# Altium schematic symbol library kmilo17pet-LT_OpAmp_LT2000.SchLib: 1710 symbols (part 26 of 75)
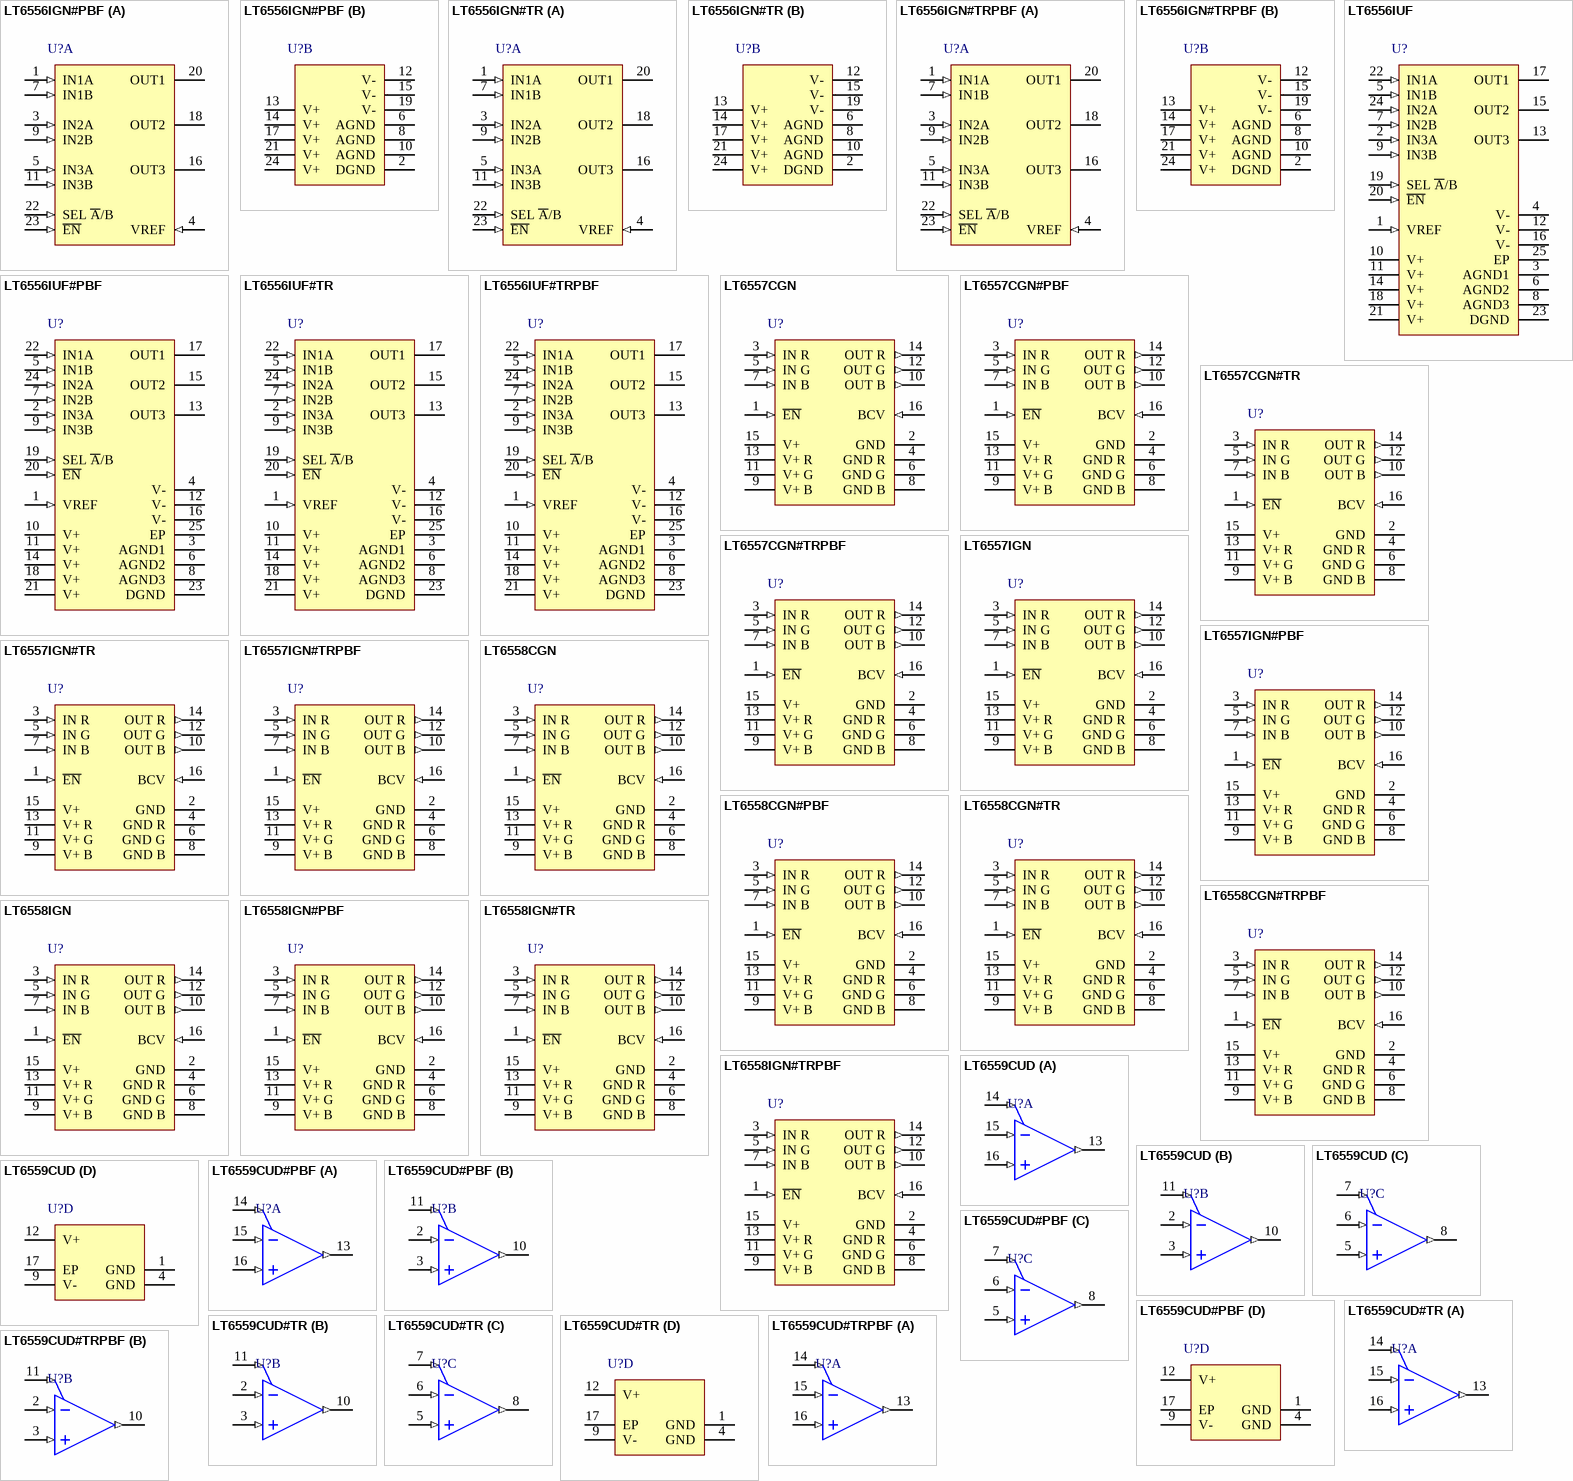
[diagram p105: symbols LT6556IGN#PBF to LT6559CUD#TRPBF]

## LT6557CGN#TR
designator U?
3 Channel, Single Supply Video Amplifier with Input Bias Control, 500 MHz Typical GBW, 2200 V/us Typical SR, 3 to 7.5 V, 16-Pin SOP (GN-16), Commercial, Reel; Linear Technology Part Number: LT6557; Manufacturer: Linear Technology; PartNumber: LT6557CGN#TR; Channels (#): 3; GBW (MHz) Typical: 500; Is (mA) Typical: 22.5; SR (V/us) Typical: 2200; Vos (mV) Typical: 12; Vs Max (V): 7.5; DatasheetVersion: Rev. A; PackageVersion: Rev B; PackageReference: LT-GN-16; PackageDescription: 16-Lead Plastic SSOP, Body 4.9 x 3.9 mm, Pitch 0.635 mm; Packing: Reel; Type: VIDEO; Vs Min (V): 3; Mounting Technology: Surface Mount; ComponentLink1Description: Manufacturer URL; ComponentLink1URL: http://www.linear.com/; ComponentLink2Description: Datasheet; ComponentLink2URL: http://cds.linear.com/docs/en/datasheet/6557fa.pdf; ComponentLink3Description: Package Specification; ComponentLink3URL: http://cds.linear.com/docs/en/packaging/05081641_B_GN16.pdf
footprint LT-GN-16_N (SOP, 16-Leads, Body 4.9x3.9mm, Pitch 0.635mm, IPC Medium Density)
footprint LT-GN-16_L (SOP, 16-Leads, Body 4.9x3.9mm, Pitch 0.635mm, IPC High Density)
footprint LT-GN-16_M (SOP, 16-Leads, Body 4.9x3.9mm, Pitch 0.635mm, IPC Low Density)
pins: 1 ~{EN} (in) "Enable Control Pin. The part is enabled when this pin is pulled low. An internal pull-up resistor of 40k will turn the part off if this pin is unconnected", 2 GND (power) "Ground Reference for Enable Pin (Pin 1) and Bias Control Voltage Pin (Pin 16). This pin must be connected externally to ground", 3 IN R (in) "Red Channel Input. This pin has a nominal impedance of 450k ohm with input bias circuit inactive, Pin 16 open.", 4 GND R (power) "Ground of Red Channel Amplifi er. This pin is not internally connected to other ground pins and must be connected externally to ground.", 5 IN G (in) "Green Channel Input. This pin has a nominal impedance of 450k ohm with input bias circuit inactive, Pin 16 open.", 6 GND G (power) "Ground of Green Channel Amplifi er. This pin is not internally connected to other ground pins and must be connected externally to ground.", 7 IN B (in) "Blue Channel Input. This pin has a nominal impedance of 450k ohm with input bias circuit inactive, Pin 16 open.", 8 GND B (power) "Ground of Blue Channel Amplifi er. This pin is not internally connected to other ground pins and must be connected externally to ground.", 9 V+ B (power) "Positive Supply Voltage of Blue Channel Amplifi er. This pin is not internally connected to other supply voltage pins and must be externally connected to the supply voltage bus with proper bypassing. For best performance, (See Datasheet)", 10 OUT B (out) "Blue Channel Output.", 11 V+ G (power) "Positive Supply Voltage of Green Channel Amplifi er. This pin is not internally connected to other supply voltage pins and must be externally connected to the supply voltage bus with proper bypassing. For best performance, (See Datasheet)", 12 OUT G (out) "Green Channel Output.", 13 V+ R (power) "Positive Supply Voltage of Red Channel Amplifi er. This pin is not internally connected to other supply voltage pins and must be externally connected tothe supply voltage bus with proper bypassing. For best performance, see (See Datasheet)", 14 OUT R (out) "Red Channel Output.", 15 V+ (power) "Positive Supply Voltage of Control Circuitry. This pin is not internally connected to other supply voltage pins and must be externally connected to supply voltage bus with proper bypassing. For best performance, see Power (See Datasheet)", 16 BCV (in) "Bias Control Voltage. A resistor connected between Pin 16 and Pin 2 (GND) will generate a DC voltage bias at the inputs of the three amplifi ers for AC coupling application, see Programmable Input Bias."

## LT6557CGN#TRPBF
designator U?
3 Channel, Single Supply Video Amplifier with Input Bias Control, 500 MHz Typical GBW, 2200 V/us Typical SR, 3 to 7.5 V, 16-Pin SOP (GN-16), Commercial, Pb-Free, Reel; Linear Technology Part Number: LT6557; Manufacturer: Linear Technology; PartNumber: LT6557CGN#TRPBF; Channels (#): 3; GBW (MHz) Typical: 500; Is (mA) Typical: 22.5; SR (V/us) Typical: 2200; Vos (mV) Typical: 12; Vs Max (V): 7.5; DatasheetVersion: Rev. A; PackageVersion: Rev B; PackageReference: LT-GN-16; PackageDescription: 16-Lead Plastic SSOP, Body 4.9 x 3.9 mm, Pitch 0.635 mm; Supplier 1: Digi-Key; Supplier Part Number 1: LT6557CGN#TRPBF-ND; Packing: Reel; RoHS: Pb-Free; Type: VIDEO; Vs Min (V): 3; Mounting Technology: Surface Mount; ComponentLink1Description: Manufacturer URL; ComponentLink1URL: http://www.linear.com/; ComponentLink2Description: Datasheet; ComponentLink2URL: http://cds.linear.com/docs/en/datasheet/6557fa.pdf; ComponentLink3Description: Package Specification; ComponentLink3URL: http://cds.linear.com/docs/en/packaging/05081641_B_GN16.pdf
footprint LT-GN-16_N (SOP, 16-Leads, Body 4.9x3.9mm, Pitch 0.635mm, IPC Medium Density)
footprint LT-GN-16_L (SOP, 16-Leads, Body 4.9x3.9mm, Pitch 0.635mm, IPC High Density)
footprint LT-GN-16_M (SOP, 16-Leads, Body 4.9x3.9mm, Pitch 0.635mm, IPC Low Density)
pins: 1 ~{EN} (in) "Enable Control Pin. The part is enabled when this pin is pulled low. An internal pull-up resistor of 40k will turn the part off if this pin is unconnected", 2 GND (power) "Ground Reference for Enable Pin (Pin 1) and Bias Control Voltage Pin (Pin 16). This pin must be connected externally to ground", 3 IN R (in) "Red Channel Input. This pin has a nominal impedance of 450k ohm with input bias circuit inactive, Pin 16 open.", 4 GND R (power) "Ground of Red Channel Amplifi er. This pin is not internally connected to other ground pins and must be connected externally to ground.", 5 IN G (in) "Green Channel Input. This pin has a nominal impedance of 450k ohm with input bias circuit inactive, Pin 16 open.", 6 GND G (power) "Ground of Green Channel Amplifi er. This pin is not internally connected to other ground pins and must be connected externally to ground.", 7 IN B (in) "Blue Channel Input. This pin has a nominal impedance of 450k ohm with input bias circuit inactive, Pin 16 open.", 8 GND B (power) "Ground of Blue Channel Amplifi er. This pin is not internally connected to other ground pins and must be connected externally to ground.", 9 V+ B (power) "Positive Supply Voltage of Blue Channel Amplifi er. This pin is not internally connected to other supply voltage pins and must be externally connected to the supply voltage bus with proper bypassing. For best performance, (See Datasheet)", 10 OUT B (out) "Blue Channel Output.", 11 V+ G (power) "Positive Supply Voltage of Green Channel Amplifi er. This pin is not internally connected to other supply voltage pins and must be externally connected to the supply voltage bus with proper bypassing. For best performance, (See Datasheet)", 12 OUT G (out) "Green Channel Output.", 13 V+ R (power) "Positive Supply Voltage of Red Channel Amplifi er. This pin is not internally connected to other supply voltage pins and must be externally connected tothe supply voltage bus with proper bypassing. For best performance, see (See Datasheet)", 14 OUT R (out) "Red Channel Output.", 15 V+ (power) "Positive Supply Voltage of Control Circuitry. This pin is not internally connected to other supply voltage pins and must be externally connected to supply voltage bus with proper bypassing. For best performance, see Power (See Datasheet)", 16 BCV (in) "Bias Control Voltage. A resistor connected between Pin 16 and Pin 2 (GND) will generate a DC voltage bias at the inputs of the three amplifi ers for AC coupling application, see Programmable Input Bias."

## LT6557IGN
designator U?
3 Channel, Single Supply Video Amplifier with Input Bias Control, 500 MHz Typical GBW, 2200 V/us Typical SR, 3 to 7.5 V, 16-Pin SOP (GN-16), Industrial; Linear Technology Part Number: LT6557; Manufacturer: Linear Technology; PartNumber: LT6557IGN; Channels (#): 3; GBW (MHz) Typical: 500; Is (mA) Typical: 22.5; SR (V/us) Typical: 2200; Vos (mV) Typical: 12; Vs Max (V): 7.5; DatasheetVersion: Rev. A; PackageVersion: Rev B; PackageReference: LT-GN-16; PackageDescription: 16-Lead Plastic SSOP, Body 4.9 x 3.9 mm, Pitch 0.635 mm; Type: VIDEO; Vs Min (V): 3; Mounting Technology: Surface Mount; ComponentLink1Description: Manufacturer URL; ComponentLink1URL: http://www.linear.com/; ComponentLink2Description: Datasheet; ComponentLink2URL: http://cds.linear.com/docs/en/datasheet/6557fa.pdf; ComponentLink3Description: Package Specification; ComponentLink3URL: http://cds.linear.com/docs/en/packaging/05081641_B_GN16.pdf
footprint LT-GN-16_N (SOP, 16-Leads, Body 4.9x3.9mm, Pitch 0.635mm, IPC Medium Density)
footprint LT-GN-16_L (SOP, 16-Leads, Body 4.9x3.9mm, Pitch 0.635mm, IPC High Density)
footprint LT-GN-16_M (SOP, 16-Leads, Body 4.9x3.9mm, Pitch 0.635mm, IPC Low Density)
pins: 1 ~{EN} (in) "Enable Control Pin. The part is enabled when this pin is pulled low. An internal pull-up resistor of 40k will turn the part off if this pin is unconnected", 2 GND (power) "Ground Reference for Enable Pin (Pin 1) and Bias Control Voltage Pin (Pin 16). This pin must be connected externally to ground", 3 IN R (in) "Red Channel Input. This pin has a nominal impedance of 450k ohm with input bias circuit inactive, Pin 16 open.", 4 GND R (power) "Ground of Red Channel Amplifi er. This pin is not internally connected to other ground pins and must be connected externally to ground.", 5 IN G (in) "Green Channel Input. This pin has a nominal impedance of 450k ohm with input bias circuit inactive, Pin 16 open.", 6 GND G (power) "Ground of Green Channel Amplifi er. This pin is not internally connected to other ground pins and must be connected externally to ground.", 7 IN B (in) "Blue Channel Input. This pin has a nominal impedance of 450k ohm with input bias circuit inactive, Pin 16 open.", 8 GND B (power) "Ground of Blue Channel Amplifi er. This pin is not internally connected to other ground pins and must be connected externally to ground.", 9 V+ B (power) "Positive Supply Voltage of Blue Channel Amplifi er. This pin is not internally connected to other supply voltage pins and must be externally connected to the supply voltage bus with proper bypassing. For best performance, (See Datasheet)", 10 OUT B (out) "Blue Channel Output.", 11 V+ G (power) "Positive Supply Voltage of Green Channel Amplifi er. This pin is not internally connected to other supply voltage pins and must be externally connected to the supply voltage bus with proper bypassing. For best performance, (See Datasheet)", 12 OUT G (out) "Green Channel Output.", 13 V+ R (power) "Positive Supply Voltage of Red Channel Amplifi er. This pin is not internally connected to other supply voltage pins and must be externally connected tothe supply voltage bus with proper bypassing. For best performance, see (See Datasheet)", 14 OUT R (out) "Red Channel Output.", 15 V+ (power) "Positive Supply Voltage of Control Circuitry. This pin is not internally connected to other supply voltage pins and must be externally connected to supply voltage bus with proper bypassing. For best performance, see Power (See Datasheet)", 16 BCV (in) "Bias Control Voltage. A resistor connected between Pin 16 and Pin 2 (GND) will generate a DC voltage bias at the inputs of the three amplifi ers for AC coupling application, see Programmable Input Bias."

## LT6557IGN#PBF
designator U?
3 Channel, Single Supply Video Amplifier with Input Bias Control, 500 MHz Typical GBW, 2200 V/us Typical SR, 3 to 7.5 V, 16-Pin SOP (GN-16), Industrial, Pb-Free; Linear Technology Part Number: LT6557; Manufacturer: Linear Technology; PartNumber: LT6557IGN#PBF; Channels (#): 3; GBW (MHz) Typical: 500; Is (mA) Typical: 22.5; SR (V/us) Typical: 2200; Vos (mV) Typical: 12; Vs Max (V): 7.5; DatasheetVersion: Rev. A; PackageVersion: Rev B; PackageReference: LT-GN-16; PackageDescription: 16-Lead Plastic SSOP, Body 4.9 x 3.9 mm, Pitch 0.635 mm; Supplier 1: Digi-Key; Supplier Part Number 1: LT6557IGN#PBF-ND; RoHS: Pb-Free; Type: VIDEO; Vs Min (V): 3; Mounting Technology: Surface Mount; ComponentLink1Description: Manufacturer URL; ComponentLink1URL: http://www.linear.com/; ComponentLink2Description: Datasheet; ComponentLink2URL: http://cds.linear.com/docs/en/datasheet/6557fa.pdf; ComponentLink3Description: Package Specification; ComponentLink3URL: http://cds.linear.com/docs/en/packaging/05081641_B_GN16.pdf
footprint LT-GN-16_N (SOP, 16-Leads, Body 4.9x3.9mm, Pitch 0.635mm, IPC Medium Density)
footprint LT-GN-16_L (SOP, 16-Leads, Body 4.9x3.9mm, Pitch 0.635mm, IPC High Density)
footprint LT-GN-16_M (SOP, 16-Leads, Body 4.9x3.9mm, Pitch 0.635mm, IPC Low Density)
pins: 1 ~{EN} (in) "Enable Control Pin. The part is enabled when this pin is pulled low. An internal pull-up resistor of 40k will turn the part off if this pin is unconnected", 2 GND (power) "Ground Reference for Enable Pin (Pin 1) and Bias Control Voltage Pin (Pin 16). This pin must be connected externally to ground", 3 IN R (in) "Red Channel Input. This pin has a nominal impedance of 450k ohm with input bias circuit inactive, Pin 16 open.", 4 GND R (power) "Ground of Red Channel Amplifi er. This pin is not internally connected to other ground pins and must be connected externally to ground.", 5 IN G (in) "Green Channel Input. This pin has a nominal impedance of 450k ohm with input bias circuit inactive, Pin 16 open.", 6 GND G (power) "Ground of Green Channel Amplifi er. This pin is not internally connected to other ground pins and must be connected externally to ground.", 7 IN B (in) "Blue Channel Input. This pin has a nominal impedance of 450k ohm with input bias circuit inactive, Pin 16 open.", 8 GND B (power) "Ground of Blue Channel Amplifi er. This pin is not internally connected to other ground pins and must be connected externally to ground.", 9 V+ B (power) "Positive Supply Voltage of Blue Channel Amplifi er. This pin is not internally connected to other supply voltage pins and must be externally connected to the supply voltage bus with proper bypassing. For best performance, (See Datasheet)", 10 OUT B (out) "Blue Channel Output.", 11 V+ G (power) "Positive Supply Voltage of Green Channel Amplifi er. This pin is not internally connected to other supply voltage pins and must be externally connected to the supply voltage bus with proper bypassing. For best performance, (See Datasheet)", 12 OUT G (out) "Green Channel Output.", 13 V+ R (power) "Positive Supply Voltage of Red Channel Amplifi er. This pin is not internally connected to other supply voltage pins and must be externally connected tothe supply voltage bus with proper bypassing. For best performance, see (See Datasheet)", 14 OUT R (out) "Red Channel Output.", 15 V+ (power) "Positive Supply Voltage of Control Circuitry. This pin is not internally connected to other supply voltage pins and must be externally connected to supply voltage bus with proper bypassing. For best performance, see Power (See Datasheet)", 16 BCV (in) "Bias Control Voltage. A resistor connected between Pin 16 and Pin 2 (GND) will generate a DC voltage bias at the inputs of the three amplifi ers for AC coupling application, see Programmable Input Bias."

## LT6557IGN#TR
designator U?
3 Channel, Single Supply Video Amplifier with Input Bias Control, 500 MHz Typical GBW, 2200 V/us Typical SR, 3 to 7.5 V, 16-Pin SOP (GN-16), Industrial, Reel; Linear Technology Part Number: LT6557; Manufacturer: Linear Technology; PartNumber: LT6557IGN#TR; Channels (#): 3; GBW (MHz) Typical: 500; Is (mA) Typical: 22.5; SR (V/us) Typical: 2200; Vos (mV) Typical: 12; Vs Max (V): 7.5; DatasheetVersion: Rev. A; PackageVersion: Rev B; PackageReference: LT-GN-16; PackageDescription: 16-Lead Plastic SSOP, Body 4.9 x 3.9 mm, Pitch 0.635 mm; Packing: Reel; Type: VIDEO; Vs Min (V): 3; Mounting Technology: Surface Mount; ComponentLink1Description: Manufacturer URL; ComponentLink1URL: http://www.linear.com/; ComponentLink2Description: Datasheet; ComponentLink2URL: http://cds.linear.com/docs/en/datasheet/6557fa.pdf; ComponentLink3Description: Package Specification; ComponentLink3URL: http://cds.linear.com/docs/en/packaging/05081641_B_GN16.pdf
footprint LT-GN-16_N (SOP, 16-Leads, Body 4.9x3.9mm, Pitch 0.635mm, IPC Medium Density)
footprint LT-GN-16_L (SOP, 16-Leads, Body 4.9x3.9mm, Pitch 0.635mm, IPC High Density)
footprint LT-GN-16_M (SOP, 16-Leads, Body 4.9x3.9mm, Pitch 0.635mm, IPC Low Density)
pins: 1 ~{EN} (in) "Enable Control Pin. The part is enabled when this pin is pulled low. An internal pull-up resistor of 40k will turn the part off if this pin is unconnected", 2 GND (power) "Ground Reference for Enable Pin (Pin 1) and Bias Control Voltage Pin (Pin 16). This pin must be connected externally to ground", 3 IN R (in) "Red Channel Input. This pin has a nominal impedance of 450k ohm with input bias circuit inactive, Pin 16 open.", 4 GND R (power) "Ground of Red Channel Amplifi er. This pin is not internally connected to other ground pins and must be connected externally to ground.", 5 IN G (in) "Green Channel Input. This pin has a nominal impedance of 450k ohm with input bias circuit inactive, Pin 16 open.", 6 GND G (power) "Ground of Green Channel Amplifi er. This pin is not internally connected to other ground pins and must be connected externally to ground.", 7 IN B (in) "Blue Channel Input. This pin has a nominal impedance of 450k ohm with input bias circuit inactive, Pin 16 open.", 8 GND B (power) "Ground of Blue Channel Amplifi er. This pin is not internally connected to other ground pins and must be connected externally to ground.", 9 V+ B (power) "Positive Supply Voltage of Blue Channel Amplifi er. This pin is not internally connected to other supply voltage pins and must be externally connected to the supply voltage bus with proper bypassing. For best performance, (See Datasheet)", 10 OUT B (out) "Blue Channel Output.", 11 V+ G (power) "Positive Supply Voltage of Green Channel Amplifi er. This pin is not internally connected to other supply voltage pins and must be externally connected to the supply voltage bus with proper bypassing. For best performance, (See Datasheet)", 12 OUT G (out) "Green Channel Output.", 13 V+ R (power) "Positive Supply Voltage of Red Channel Amplifi er. This pin is not internally connected to other supply voltage pins and must be externally connected tothe supply voltage bus with proper bypassing. For best performance, see (See Datasheet)", 14 OUT R (out) "Red Channel Output.", 15 V+ (power) "Positive Supply Voltage of Control Circuitry. This pin is not internally connected to other supply voltage pins and must be externally connected to supply voltage bus with proper bypassing. For best performance, see Power (See Datasheet)", 16 BCV (in) "Bias Control Voltage. A resistor connected between Pin 16 and Pin 2 (GND) will generate a DC voltage bias at the inputs of the three amplifi ers for AC coupling application, see Programmable Input Bias."

## LT6557IGN#TRPBF
designator U?
3 Channel, Single Supply Video Amplifier with Input Bias Control, 500 MHz Typical GBW, 2200 V/us Typical SR, 3 to 7.5 V, 16-Pin SOP (GN-16), Industrial, Pb-Free, Reel; Linear Technology Part Number: LT6557; Manufacturer: Linear Technology; PartNumber: LT6557IGN#TRPBF; Channels (#): 3; GBW (MHz) Typical: 500; Is (mA) Typical: 22.5; SR (V/us) Typical: 2200; Vos (mV) Typical: 12; Vs Max (V): 7.5; DatasheetVersion: Rev. A; PackageVersion: Rev B; PackageReference: LT-GN-16; PackageDescription: 16-Lead Plastic SSOP, Body 4.9 x 3.9 mm, Pitch 0.635 mm; Supplier 1: Digi-Key; Supplier Part Number 1: LT6557IGN#TRPBF-ND; Packing: Reel; RoHS: Pb-Free; Type: VIDEO; Vs Min (V): 3; Mounting Technology: Surface Mount; ComponentLink1Description: Manufacturer URL; ComponentLink1URL: http://www.linear.com/; ComponentLink2Description: Datasheet; ComponentLink2URL: http://cds.linear.com/docs/en/datasheet/6557fa.pdf; ComponentLink3Description: Package Specification; ComponentLink3URL: http://cds.linear.com/docs/en/packaging/05081641_B_GN16.pdf
footprint LT-GN-16_N (SOP, 16-Leads, Body 4.9x3.9mm, Pitch 0.635mm, IPC Medium Density)
footprint LT-GN-16_L (SOP, 16-Leads, Body 4.9x3.9mm, Pitch 0.635mm, IPC High Density)
footprint LT-GN-16_M (SOP, 16-Leads, Body 4.9x3.9mm, Pitch 0.635mm, IPC Low Density)
pins: 1 ~{EN} (in) "Enable Control Pin. The part is enabled when this pin is pulled low. An internal pull-up resistor of 40k will turn the part off if this pin is unconnected", 2 GND (power) "Ground Reference for Enable Pin (Pin 1) and Bias Control Voltage Pin (Pin 16). This pin must be connected externally to ground", 3 IN R (in) "Red Channel Input. This pin has a nominal impedance of 450k ohm with input bias circuit inactive, Pin 16 open.", 4 GND R (power) "Ground of Red Channel Amplifi er. This pin is not internally connected to other ground pins and must be connected externally to ground.", 5 IN G (in) "Green Channel Input. This pin has a nominal impedance of 450k ohm with input bias circuit inactive, Pin 16 open.", 6 GND G (power) "Ground of Green Channel Amplifi er. This pin is not internally connected to other ground pins and must be connected externally to ground.", 7 IN B (in) "Blue Channel Input. This pin has a nominal impedance of 450k ohm with input bias circuit inactive, Pin 16 open.", 8 GND B (power) "Ground of Blue Channel Amplifi er. This pin is not internally connected to other ground pins and must be connected externally to ground.", 9 V+ B (power) "Positive Supply Voltage of Blue Channel Amplifi er. This pin is not internally connected to other supply voltage pins and must be externally connected to the supply voltage bus with proper bypassing. For best performance, (See Datasheet)", 10 OUT B (out) "Blue Channel Output.", 11 V+ G (power) "Positive Supply Voltage of Green Channel Amplifi er. This pin is not internally connected to other supply voltage pins and must be externally connected to the supply voltage bus with proper bypassing. For best performance, (See Datasheet)", 12 OUT G (out) "Green Channel Output.", 13 V+ R (power) "Positive Supply Voltage of Red Channel Amplifi er. This pin is not internally connected to other supply voltage pins and must be externally connected tothe supply voltage bus with proper bypassing. For best performance, see (See Datasheet)", 14 OUT R (out) "Red Channel Output.", 15 V+ (power) "Positive Supply Voltage of Control Circuitry. This pin is not internally connected to other supply voltage pins and must be externally connected to supply voltage bus with proper bypassing. For best performance, see Power (See Datasheet)", 16 BCV (in) "Bias Control Voltage. A resistor connected between Pin 16 and Pin 2 (GND) will generate a DC voltage bias at the inputs of the three amplifi ers for AC coupling application, see Programmable Input Bias."

## LT6558CGN
designator U?
3 Channel, Single Supply Video Amplifier with Input Bias Control, 550 MHz Typical GBW, 2200 V/us Typical SR, 3 to 7.5 V, 16-Pin SOP (GN-16), Commercial; Linear Technology Part Number: LT6558; Manufacturer: Linear Technology; PartNumber: LT6558CGN; Channels (#): 3; GBW (MHz) Typical: 550; Is (mA) Typical: 22.5; SR (V/us) Typical: 2200; Vos (mV) Typical: 12; Vs Max (V): 7.5; PackageVersion: Rev B; PackageReference: LT-GN-16; PackageDescription: 16-Lead Plastic SSOP, Body 4.9 x 3.9 mm, Pitch 0.635 mm; Type: CFA; Vs Min (V): 3; Mounting Technology: Surface Mount; ComponentLink1Description: Manufacturer URL; ComponentLink1URL: http://www.linear.com/; ComponentLink2Description: Datasheet; ComponentLink2URL: http://cds.linear.com/docs/en/datasheet/6558f.pdf; ComponentLink3Description: Package Specification; ComponentLink3URL: http://cds.linear.com/docs/en/packaging/05081641_B_GN16.pdf
footprint LT-GN-16_N (SOP, 16-Leads, Body 4.9x3.9mm, Pitch 0.635mm, IPC Medium Density)
footprint LT-GN-16_L (SOP, 16-Leads, Body 4.9x3.9mm, Pitch 0.635mm, IPC High Density)
footprint LT-GN-16_M (SOP, 16-Leads, Body 4.9x3.9mm, Pitch 0.635mm, IPC Low Density)
pins: 1 ~{EN} (in) "Enable Control Pin. The part is enabled when this pin is pulled low. An internal pull-up resistor of 40k will turn the part off if this pin is unconnected", 2 GND (power) "Ground Reference for Enable Pin (Pin 1) and Bias Control Voltage Pin (Pin 16). This pin must be connected externally to ground", 3 IN R (in) "Red Channel Input. This pin has a nominal impedance of 450k ohm with input bias circuit inactive, Pin 16 open.", 4 GND R (power) "Ground of Red Channel Amplifi er. This pin is not internally connected to other ground pins and must be connected externally to ground.", 5 IN G (in) "Green Channel Input. This pin has a nominal impedance of 450k ohm with input bias circuit inactive, Pin 16 open.", 6 GND G (power) "Ground of Green Channel Amplifi er. This pin is not internally connected to other ground pins and must be connected externally to ground.", 7 IN B (in) "Blue Channel Input. This pin has a nominal impedance of 450k ohm with input bias circuit inactive, Pin 16 open.", 8 GND B (power) "Ground of Blue Channel Amplifi er. This pin is not internally connected to other ground pins and must be connected externally to ground.", 9 V+ B (power) "Positive Supply Voltage of Blue Channel Amplifi er. This pin is not internally connected to other supply voltage pins and must be externally connected to the supply voltage bus with proper bypassing. For best performance, (See Datasheet)", 10 OUT B (out) "Blue Channel Output.", 11 V+ G (power) "Positive Supply Voltage of Green Channel Amplifi er. This pin is not internally connected to other supply voltage pins and must be externally connected to the supply voltage bus with proper bypassing. For best performance, (See Datasheet)", 12 OUT G (out) "Green Channel Output.", 13 V+ R (power) "Positive Supply Voltage of Red Channel Amplifi er. This pin is not internally connected to other supply voltage pins and must be externally connected tothe supply voltage bus with proper bypassing. For best performance, see (See Datasheet)", 14 OUT R (out) "Red Channel Output.", 15 V+ (power) "Positive Supply Voltage of Control Circuitry. This pin is not internally connected to other supply voltage pins and must be externally connected to supply voltage bus with proper bypassing. For best performance, see Power (See Datasheet)", 16 BCV (in) "Bias Control Voltage. A resistor connected between Pin 16 and Pin 2 (GND) will generate a DC voltage bias at the inputs of the three amplifi ers for AC coupling application, see Programmable Input Bias."

## LT6558CGN#PBF
designator U?
3 Channel, Single Supply Video Amplifier with Input Bias Control, 550 MHz Typical GBW, 2200 V/us Typical SR, 3 to 7.5 V, 16-Pin SOP (GN-16), Commercial, Pb-Free; Linear Technology Part Number: LT6558; Manufacturer: Linear Technology; PartNumber: LT6558CGN#PBF; Channels (#): 3; GBW (MHz) Typical: 550; Is (mA) Typical: 22.5; SR (V/us) Typical: 2200; Vos (mV) Typical: 12; Vs Max (V): 7.5; PackageVersion: Rev B; PackageReference: LT-GN-16; PackageDescription: 16-Lead Plastic SSOP, Body 4.9 x 3.9 mm, Pitch 0.635 mm; Supplier 1: Digi-Key; Supplier Part Number 1: LT6558CGN#PBF-ND; Supplier 2: Farnell; Supplier Part Number 2: 1330776; Supplier 3: Newark; Supplier Part Number 3: 57M9540; RoHS: Pb-Free; Type: CFA; Vs Min (V): 3; Mounting Technology: Surface Mount; ComponentLink1Description: Manufacturer URL; ComponentLink1URL: http://www.linear.com/; ComponentLink2Description: Datasheet; ComponentLink2URL: http://cds.linear.com/docs/en/datasheet/6558f.pdf; ComponentLink3Description: Package Specification; ComponentLink3URL: http://cds.linear.com/docs/en/packaging/05081641_B_GN16.pdf
footprint LT-GN-16_N (SOP, 16-Leads, Body 4.9x3.9mm, Pitch 0.635mm, IPC Medium Density)
footprint LT-GN-16_L (SOP, 16-Leads, Body 4.9x3.9mm, Pitch 0.635mm, IPC High Density)
footprint LT-GN-16_M (SOP, 16-Leads, Body 4.9x3.9mm, Pitch 0.635mm, IPC Low Density)
pins: 1 ~{EN} (in) "Enable Control Pin. The part is enabled when this pin is pulled low. An internal pull-up resistor of 40k will turn the part off if this pin is unconnected", 2 GND (power) "Ground Reference for Enable Pin (Pin 1) and Bias Control Voltage Pin (Pin 16). This pin must be connected externally to ground", 3 IN R (in) "Red Channel Input. This pin has a nominal impedance of 450k ohm with input bias circuit inactive, Pin 16 open.", 4 GND R (power) "Ground of Red Channel Amplifi er. This pin is not internally connected to other ground pins and must be connected externally to ground.", 5 IN G (in) "Green Channel Input. This pin has a nominal impedance of 450k ohm with input bias circuit inactive, Pin 16 open.", 6 GND G (power) "Ground of Green Channel Amplifi er. This pin is not internally connected to other ground pins and must be connected externally to ground.", 7 IN B (in) "Blue Channel Input. This pin has a nominal impedance of 450k ohm with input bias circuit inactive, Pin 16 open.", 8 GND B (power) "Ground of Blue Channel Amplifi er. This pin is not internally connected to other ground pins and must be connected externally to ground.", 9 V+ B (power) "Positive Supply Voltage of Blue Channel Amplifi er. This pin is not internally connected to other supply voltage pins and must be externally connected to the supply voltage bus with proper bypassing. For best performance, (See Datasheet)", 10 OUT B (out) "Blue Channel Output.", 11 V+ G (power) "Positive Supply Voltage of Green Channel Amplifi er. This pin is not internally connected to other supply voltage pins and must be externally connected to the supply voltage bus with proper bypassing. For best performance, (See Datasheet)", 12 OUT G (out) "Green Channel Output.", 13 V+ R (power) "Positive Supply Voltage of Red Channel Amplifi er. This pin is not internally connected to other supply voltage pins and must be externally connected tothe supply voltage bus with proper bypassing. For best performance, see (See Datasheet)", 14 OUT R (out) "Red Channel Output.", 15 V+ (power) "Positive Supply Voltage of Control Circuitry. This pin is not internally connected to other supply voltage pins and must be externally connected to supply voltage bus with proper bypassing. For best performance, see Power (See Datasheet)", 16 BCV (in) "Bias Control Voltage. A resistor connected between Pin 16 and Pin 2 (GND) will generate a DC voltage bias at the inputs of the three amplifi ers for AC coupling application, see Programmable Input Bias."

## LT6558CGN#TR
designator U?
3 Channel, Single Supply Video Amplifier with Input Bias Control, 550 MHz Typical GBW, 2200 V/us Typical SR, 3 to 7.5 V, 16-Pin SOP (GN-16), Commercial, Reel; Linear Technology Part Number: LT6558; Manufacturer: Linear Technology; PartNumber: LT6558CGN#TR; Channels (#): 3; GBW (MHz) Typical: 550; Is (mA) Typical: 22.5; SR (V/us) Typical: 2200; Vos (mV) Typical: 12; Vs Max (V): 7.5; PackageVersion: Rev B; PackageReference: LT-GN-16; PackageDescription: 16-Lead Plastic SSOP, Body 4.9 x 3.9 mm, Pitch 0.635 mm; Packing: Reel; Type: CFA; Vs Min (V): 3; Mounting Technology: Surface Mount; ComponentLink1Description: Manufacturer URL; ComponentLink1URL: http://www.linear.com/; ComponentLink2Description: Datasheet; ComponentLink2URL: http://cds.linear.com/docs/en/datasheet/6558f.pdf; ComponentLink3Description: Package Specification; ComponentLink3URL: http://cds.linear.com/docs/en/packaging/05081641_B_GN16.pdf
footprint LT-GN-16_N (SOP, 16-Leads, Body 4.9x3.9mm, Pitch 0.635mm, IPC Medium Density)
footprint LT-GN-16_L (SOP, 16-Leads, Body 4.9x3.9mm, Pitch 0.635mm, IPC High Density)
footprint LT-GN-16_M (SOP, 16-Leads, Body 4.9x3.9mm, Pitch 0.635mm, IPC Low Density)
pins: 1 ~{EN} (in) "Enable Control Pin. The part is enabled when this pin is pulled low. An internal pull-up resistor of 40k will turn the part off if this pin is unconnected", 2 GND (power) "Ground Reference for Enable Pin (Pin 1) and Bias Control Voltage Pin (Pin 16). This pin must be connected externally to ground", 3 IN R (in) "Red Channel Input. This pin has a nominal impedance of 450k ohm with input bias circuit inactive, Pin 16 open.", 4 GND R (power) "Ground of Red Channel Amplifi er. This pin is not internally connected to other ground pins and must be connected externally to ground.", 5 IN G (in) "Green Channel Input. This pin has a nominal impedance of 450k ohm with input bias circuit inactive, Pin 16 open.", 6 GND G (power) "Ground of Green Channel Amplifi er. This pin is not internally connected to other ground pins and must be connected externally to ground.", 7 IN B (in) "Blue Channel Input. This pin has a nominal impedance of 450k ohm with input bias circuit inactive, Pin 16 open.", 8 GND B (power) "Ground of Blue Channel Amplifi er. This pin is not internally connected to other ground pins and must be connected externally to ground.", 9 V+ B (power) "Positive Supply Voltage of Blue Channel Amplifi er. This pin is not internally connected to other supply voltage pins and must be externally connected to the supply voltage bus with proper bypassing. For best performance, (See Datasheet)", 10 OUT B (out) "Blue Channel Output.", 11 V+ G (power) "Positive Supply Voltage of Green Channel Amplifi er. This pin is not internally connected to other supply voltage pins and must be externally connected to the supply voltage bus with proper bypassing. For best performance, (See Datasheet)", 12 OUT G (out) "Green Channel Output.", 13 V+ R (power) "Positive Supply Voltage of Red Channel Amplifi er. This pin is not internally connected to other supply voltage pins and must be externally connected tothe supply voltage bus with proper bypassing. For best performance, see (See Datasheet)", 14 OUT R (out) "Red Channel Output.", 15 V+ (power) "Positive Supply Voltage of Control Circuitry. This pin is not internally connected to other supply voltage pins and must be externally connected to supply voltage bus with proper bypassing. For best performance, see Power (See Datasheet)", 16 BCV (in) "Bias Control Voltage. A resistor connected between Pin 16 and Pin 2 (GND) will generate a DC voltage bias at the inputs of the three amplifi ers for AC coupling application, see Programmable Input Bias."

## LT6558CGN#TRPBF
designator U?
3 Channel, Single Supply Video Amplifier with Input Bias Control, 550 MHz Typical GBW, 2200 V/us Typical SR, 3 to 7.5 V, 16-Pin SOP (GN-16), Commercial, Pb-Free, Reel; Linear Technology Part Number: LT6558; Manufacturer: Linear Technology; PartNumber: LT6558CGN#TRPBF; Channels (#): 3; GBW (MHz) Typical: 550; Is (mA) Typical: 22.5; SR (V/us) Typical: 2200; Vos (mV) Typical: 12; Vs Max (V): 7.5; PackageVersion: Rev B; PackageReference: LT-GN-16; PackageDescription: 16-Lead Plastic SSOP, Body 4.9 x 3.9 mm, Pitch 0.635 mm; Supplier 1: Digi-Key; Supplier Part Number 1: LT6558CGN#TRPBF-ND; Packing: Reel; RoHS: Pb-Free; Type: CFA; Vs Min (V): 3; Mounting Technology: Surface Mount; ComponentLink1Description: Manufacturer URL; ComponentLink1URL: http://www.linear.com/; ComponentLink2Description: Datasheet; ComponentLink2URL: http://cds.linear.com/docs/en/datasheet/6558f.pdf; ComponentLink3Description: Package Specification; ComponentLink3URL: http://cds.linear.com/docs/en/packaging/05081641_B_GN16.pdf
footprint LT-GN-16_N (SOP, 16-Leads, Body 4.9x3.9mm, Pitch 0.635mm, IPC Medium Density)
footprint LT-GN-16_L (SOP, 16-Leads, Body 4.9x3.9mm, Pitch 0.635mm, IPC High Density)
footprint LT-GN-16_M (SOP, 16-Leads, Body 4.9x3.9mm, Pitch 0.635mm, IPC Low Density)
pins: 1 ~{EN} (in) "Enable Control Pin. The part is enabled when this pin is pulled low. An internal pull-up resistor of 40k will turn the part off if this pin is unconnected", 2 GND (power) "Ground Reference for Enable Pin (Pin 1) and Bias Control Voltage Pin (Pin 16). This pin must be connected externally to ground", 3 IN R (in) "Red Channel Input. This pin has a nominal impedance of 450k ohm with input bias circuit inactive, Pin 16 open.", 4 GND R (power) "Ground of Red Channel Amplifi er. This pin is not internally connected to other ground pins and must be connected externally to ground.", 5 IN G (in) "Green Channel Input. This pin has a nominal impedance of 450k ohm with input bias circuit inactive, Pin 16 open.", 6 GND G (power) "Ground of Green Channel Amplifi er. This pin is not internally connected to other ground pins and must be connected externally to ground.", 7 IN B (in) "Blue Channel Input. This pin has a nominal impedance of 450k ohm with input bias circuit inactive, Pin 16 open.", 8 GND B (power) "Ground of Blue Channel Amplifi er. This pin is not internally connected to other ground pins and must be connected externally to ground.", 9 V+ B (power) "Positive Supply Voltage of Blue Channel Amplifi er. This pin is not internally connected to other supply voltage pins and must be externally connected to the supply voltage bus with proper bypassing. For best performance, (See Datasheet)", 10 OUT B (out) "Blue Channel Output.", 11 V+ G (power) "Positive Supply Voltage of Green Channel Amplifi er. This pin is not internally connected to other supply voltage pins and must be externally connected to the supply voltage bus with proper bypassing. For best performance, (See Datasheet)", 12 OUT G (out) "Green Channel Output.", 13 V+ R (power) "Positive Supply Voltage of Red Channel Amplifi er. This pin is not internally connected to other supply voltage pins and must be externally connected tothe supply voltage bus with proper bypassing. For best performance, see (See Datasheet)", 14 OUT R (out) "Red Channel Output.", 15 V+ (power) "Positive Supply Voltage of Control Circuitry. This pin is not internally connected to other supply voltage pins and must be externally connected to supply voltage bus with proper bypassing. For best performance, see Power (See Datasheet)", 16 BCV (in) "Bias Control Voltage. A resistor connected between Pin 16 and Pin 2 (GND) will generate a DC voltage bias at the inputs of the three amplifi ers for AC coupling application, see Programmable Input Bias."

## LT6558IGN
designator U?
3 Channel, Single Supply Video Amplifier with Input Bias Control, 550 MHz Typical GBW, 2200 V/us Typical SR, 3 to 7.5 V, 16-Pin SOP (GN-16), Industrial; Linear Technology Part Number: LT6558; Manufacturer: Linear Technology; PartNumber: LT6558IGN; Channels (#): 3; GBW (MHz) Typical: 550; Is (mA) Typical: 22.5; SR (V/us) Typical: 2200; Vos (mV) Typical: 12; Vs Max (V): 7.5; PackageVersion: Rev B; PackageReference: LT-GN-16; PackageDescription: 16-Lead Plastic SSOP, Body 4.9 x 3.9 mm, Pitch 0.635 mm; Type: CFA; Vs Min (V): 3; Mounting Technology: Surface Mount; ComponentLink1Description: Manufacturer URL; ComponentLink1URL: http://www.linear.com/; ComponentLink2Description: Datasheet; ComponentLink2URL: http://cds.linear.com/docs/en/datasheet/6558f.pdf; ComponentLink3Description: Package Specification; ComponentLink3URL: http://cds.linear.com/docs/en/packaging/05081641_B_GN16.pdf
footprint LT-GN-16_N (SOP, 16-Leads, Body 4.9x3.9mm, Pitch 0.635mm, IPC Medium Density)
footprint LT-GN-16_L (SOP, 16-Leads, Body 4.9x3.9mm, Pitch 0.635mm, IPC High Density)
footprint LT-GN-16_M (SOP, 16-Leads, Body 4.9x3.9mm, Pitch 0.635mm, IPC Low Density)
pins: 1 ~{EN} (in) "Enable Control Pin. The part is enabled when this pin is pulled low. An internal pull-up resistor of 40k will turn the part off if this pin is unconnected", 2 GND (power) "Ground Reference for Enable Pin (Pin 1) and Bias Control Voltage Pin (Pin 16). This pin must be connected externally to ground", 3 IN R (in) "Red Channel Input. This pin has a nominal impedance of 450k ohm with input bias circuit inactive, Pin 16 open.", 4 GND R (power) "Ground of Red Channel Amplifi er. This pin is not internally connected to other ground pins and must be connected externally to ground.", 5 IN G (in) "Green Channel Input. This pin has a nominal impedance of 450k ohm with input bias circuit inactive, Pin 16 open.", 6 GND G (power) "Ground of Green Channel Amplifi er. This pin is not internally connected to other ground pins and must be connected externally to ground.", 7 IN B (in) "Blue Channel Input. This pin has a nominal impedance of 450k ohm with input bias circuit inactive, Pin 16 open.", 8 GND B (power) "Ground of Blue Channel Amplifi er. This pin is not internally connected to other ground pins and must be connected externally to ground.", 9 V+ B (power) "Positive Supply Voltage of Blue Channel Amplifi er. This pin is not internally connected to other supply voltage pins and must be externally connected to the supply voltage bus with proper bypassing. For best performance, (See Datasheet)", 10 OUT B (out) "Blue Channel Output.", 11 V+ G (power) "Positive Supply Voltage of Green Channel Amplifi er. This pin is not internally connected to other supply voltage pins and must be externally connected to the supply voltage bus with proper bypassing. For best performance, (See Datasheet)", 12 OUT G (out) "Green Channel Output.", 13 V+ R (power) "Positive Supply Voltage of Red Channel Amplifi er. This pin is not internally connected to other supply voltage pins and must be externally connected tothe supply voltage bus with proper bypassing. For best performance, see (See Datasheet)", 14 OUT R (out) "Red Channel Output.", 15 V+ (power) "Positive Supply Voltage of Control Circuitry. This pin is not internally connected to other supply voltage pins and must be externally connected to supply voltage bus with proper bypassing. For best performance, see Power (See Datasheet)", 16 BCV (in) "Bias Control Voltage. A resistor connected between Pin 16 and Pin 2 (GND) will generate a DC voltage bias at the inputs of the three amplifi ers for AC coupling application, see Programmable Input Bias."

## LT6558IGN#PBF
designator U?
3 Channel, Single Supply Video Amplifier with Input Bias Control, 550 MHz Typical GBW, 2200 V/us Typical SR, 3 to 7.5 V, 16-Pin SOP (GN-16), Industrial, Pb-Free; Linear Technology Part Number: LT6558; Manufacturer: Linear Technology; PartNumber: LT6558IGN#PBF; Channels (#): 3; GBW (MHz) Typical: 550; Is (mA) Typical: 22.5; SR (V/us) Typical: 2200; Vos (mV) Typical: 12; Vs Max (V): 7.5; PackageVersion: Rev B; PackageReference: LT-GN-16; PackageDescription: 16-Lead Plastic SSOP, Body 4.9 x 3.9 mm, Pitch 0.635 mm; Supplier 1: Digi-Key; Supplier Part Number 1: LT6558IGN#PBF-ND; RoHS: Pb-Free; Type: CFA; Vs Min (V): 3; Mounting Technology: Surface Mount; ComponentLink1Description: Manufacturer URL; ComponentLink1URL: http://www.linear.com/; ComponentLink2Description: Datasheet; ComponentLink2URL: http://cds.linear.com/docs/en/datasheet/6558f.pdf; ComponentLink3Description: Package Specification; ComponentLink3URL: http://cds.linear.com/docs/en/packaging/05081641_B_GN16.pdf
footprint LT-GN-16_N (SOP, 16-Leads, Body 4.9x3.9mm, Pitch 0.635mm, IPC Medium Density)
footprint LT-GN-16_L (SOP, 16-Leads, Body 4.9x3.9mm, Pitch 0.635mm, IPC High Density)
footprint LT-GN-16_M (SOP, 16-Leads, Body 4.9x3.9mm, Pitch 0.635mm, IPC Low Density)
pins: 1 ~{EN} (in) "Enable Control Pin. The part is enabled when this pin is pulled low. An internal pull-up resistor of 40k will turn the part off if this pin is unconnected", 2 GND (power) "Ground Reference for Enable Pin (Pin 1) and Bias Control Voltage Pin (Pin 16). This pin must be connected externally to ground", 3 IN R (in) "Red Channel Input. This pin has a nominal impedance of 450k ohm with input bias circuit inactive, Pin 16 open.", 4 GND R (power) "Ground of Red Channel Amplifi er. This pin is not internally connected to other ground pins and must be connected externally to ground.", 5 IN G (in) "Green Channel Input. This pin has a nominal impedance of 450k ohm with input bias circuit inactive, Pin 16 open.", 6 GND G (power) "Ground of Green Channel Amplifi er. This pin is not internally connected to other ground pins and must be connected externally to ground.", 7 IN B (in) "Blue Channel Input. This pin has a nominal impedance of 450k ohm with input bias circuit inactive, Pin 16 open.", 8 GND B (power) "Ground of Blue Channel Amplifi er. This pin is not internally connected to other ground pins and must be connected externally to ground.", 9 V+ B (power) "Positive Supply Voltage of Blue Channel Amplifi er. This pin is not internally connected to other supply voltage pins and must be externally connected to the supply voltage bus with proper bypassing. For best performance, (See Datasheet)", 10 OUT B (out) "Blue Channel Output.", 11 V+ G (power) "Positive Supply Voltage of Green Channel Amplifi er. This pin is not internally connected to other supply voltage pins and must be externally connected to the supply voltage bus with proper bypassing. For best performance, (See Datasheet)", 12 OUT G (out) "Green Channel Output.", 13 V+ R (power) "Positive Supply Voltage of Red Channel Amplifi er. This pin is not internally connected to other supply voltage pins and must be externally connected tothe supply voltage bus with proper bypassing. For best performance, see (See Datasheet)", 14 OUT R (out) "Red Channel Output.", 15 V+ (power) "Positive Supply Voltage of Control Circuitry. This pin is not internally connected to other supply voltage pins and must be externally connected to supply voltage bus with proper bypassing. For best performance, see Power (See Datasheet)", 16 BCV (in) "Bias Control Voltage. A resistor connected between Pin 16 and Pin 2 (GND) will generate a DC voltage bias at the inputs of the three amplifi ers for AC coupling application, see Programmable Input Bias."

## LT6558IGN#TR
designator U?
3 Channel, Single Supply Video Amplifier with Input Bias Control, 550 MHz Typical GBW, 2200 V/us Typical SR, 3 to 7.5 V, 16-Pin SOP (GN-16), Industrial, Reel; Linear Technology Part Number: LT6558; Manufacturer: Linear Technology; PartNumber: LT6558IGN#TR; Channels (#): 3; GBW (MHz) Typical: 550; Is (mA) Typical: 22.5; SR (V/us) Typical: 2200; Vos (mV) Typical: 12; Vs Max (V): 7.5; PackageVersion: Rev B; PackageReference: LT-GN-16; PackageDescription: 16-Lead Plastic SSOP, Body 4.9 x 3.9 mm, Pitch 0.635 mm; Packing: Reel; Type: CFA; Vs Min (V): 3; Mounting Technology: Surface Mount; ComponentLink1Description: Manufacturer URL; ComponentLink1URL: http://www.linear.com/; ComponentLink2Description: Datasheet; ComponentLink2URL: http://cds.linear.com/docs/en/datasheet/6558f.pdf; ComponentLink3Description: Package Specification; ComponentLink3URL: http://cds.linear.com/docs/en/packaging/05081641_B_GN16.pdf
footprint LT-GN-16_N (SOP, 16-Leads, Body 4.9x3.9mm, Pitch 0.635mm, IPC Medium Density)
footprint LT-GN-16_L (SOP, 16-Leads, Body 4.9x3.9mm, Pitch 0.635mm, IPC High Density)
footprint LT-GN-16_M (SOP, 16-Leads, Body 4.9x3.9mm, Pitch 0.635mm, IPC Low Density)
pins: 1 ~{EN} (in) "Enable Control Pin. The part is enabled when this pin is pulled low. An internal pull-up resistor of 40k will turn the part off if this pin is unconnected", 2 GND (power) "Ground Reference for Enable Pin (Pin 1) and Bias Control Voltage Pin (Pin 16). This pin must be connected externally to ground", 3 IN R (in) "Red Channel Input. This pin has a nominal impedance of 450k ohm with input bias circuit inactive, Pin 16 open.", 4 GND R (power) "Ground of Red Channel Amplifi er. This pin is not internally connected to other ground pins and must be connected externally to ground.", 5 IN G (in) "Green Channel Input. This pin has a nominal impedance of 450k ohm with input bias circuit inactive, Pin 16 open.", 6 GND G (power) "Ground of Green Channel Amplifi er. This pin is not internally connected to other ground pins and must be connected externally to ground.", 7 IN B (in) "Blue Channel Input. This pin has a nominal impedance of 450k ohm with input bias circuit inactive, Pin 16 open.", 8 GND B (power) "Ground of Blue Channel Amplifi er. This pin is not internally connected to other ground pins and must be connected externally to ground.", 9 V+ B (power) "Positive Supply Voltage of Blue Channel Amplifi er. This pin is not internally connected to other supply voltage pins and must be externally connected to the supply voltage bus with proper bypassing. For best performance, (See Datasheet)", 10 OUT B (out) "Blue Channel Output.", 11 V+ G (power) "Positive Supply Voltage of Green Channel Amplifi er. This pin is not internally connected to other supply voltage pins and must be externally connected to the supply voltage bus with proper bypassing. For best performance, (See Datasheet)", 12 OUT G (out) "Green Channel Output.", 13 V+ R (power) "Positive Supply Voltage of Red Channel Amplifi er. This pin is not internally connected to other supply voltage pins and must be externally connected tothe supply voltage bus with proper bypassing. For best performance, see (See Datasheet)", 14 OUT R (out) "Red Channel Output.", 15 V+ (power) "Positive Supply Voltage of Control Circuitry. This pin is not internally connected to other supply voltage pins and must be externally connected to supply voltage bus with proper bypassing. For best performance, see Power (See Datasheet)", 16 BCV (in) "Bias Control Voltage. A resistor connected between Pin 16 and Pin 2 (GND) will generate a DC voltage bias at the inputs of the three amplifi ers for AC coupling application, see Programmable Input Bias."